# Altium footprint library PcbLib-PCB-Invernadero.PcbLib: 5 footprints
Each footprint in its own frame and in the unit in brackets; x right, y up, seen from the top. Pads: shape width x height; smd on the part's side, far side on the other; paste and mask are expansions set on the pad; w line width, h text height; cw(c..) or ccw(c..) is an arc to the next point about the centre after c.
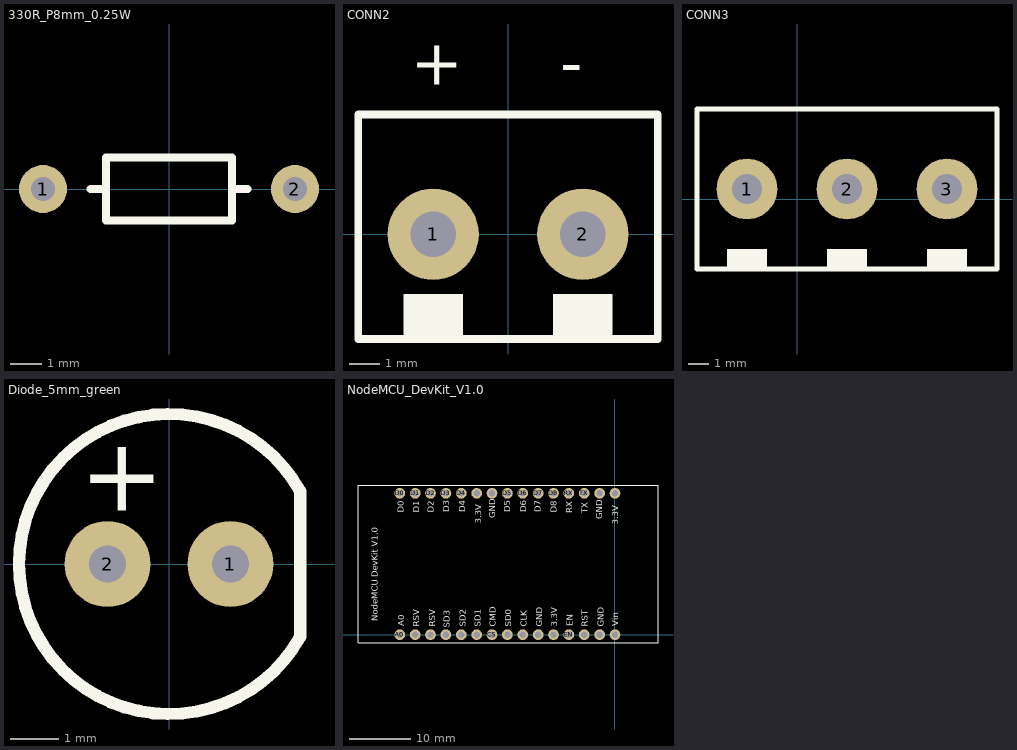
[diagram p0: the footprints below, top view; thin cyan lines are the x and y axes]

## 330R_P8mm_0.25W [mil]
pads (2):
  round 60 hole 30: 1(-157.48,0) 2(157.48,0)
Top Overlay:
  lines w10: -98.43,0 -78.74,0 ; 78.74,0 98.43,0 ; -78.74,-39.37 -78.74,39.37 78.74,39.37 78.74,-39.37 -78.74,-39.37
3D body "R330_L8mm_0.25watts.STEP": height 103.74, standoff -103.35, extent -167.32,-49.61 167.32,49.61

## CONN2 [mil]
pads (2):
  round 120 hole 60: 1(-98.43,0) 2(98.43,0)
Top Overlay:
  rectangle: -137.8,-137.8 -59.06,-78.74
  rectangle: 59.06,-137.8 137.8,-78.74
  lines w10: -196.85,-137.8 -196.85,157.48 196.85,157.48 196.85,-137.8 -196.85,-137.8
  text "+" at -127.8,196.85 h60
  text "-" at 69.06,196.55 h60
3D body "Connector.STEP": height 394.2, standoff -127.45, extent -196.85,-137.8 196.85,157.48

## CONN3 [mil]
pads (3):
  round 120 hole 60: 1(-98.43,19.68) 2(98.43,19.68) 3(295.28,19.68)
Top Overlay:
  rectangle: -137.8,-137.8 -59.06,-98.43
  rectangle: 59.06,-137.8 137.8,-98.43
  rectangle: 255.91,-137.8 334.65,-98.43
  lines w10: -196.85,-137.8 393.7,-137.8 393.7,177.17 -196.85,177.17 -196.85,-137.8
3D body "bornera de 3 terminales v2.0.STEP": height 394.2, standoff -156.98, extent -196.85,-137.8 393.7,177.16

## Diode_5mm_green [mil]
pads (2):
  round 70 hole 30: 1(50,0) 2(-50,0)
Top Overlay:
  lines w10: 106.69,-59.27 cw(c0,0) 106.69,59.27 106.69,-59.27
  text "+" at -72.68,43.31 h60
3D body "LED_GREEN_5MM.STEP": height 354.83, standoff -196.35, extent -118.11,-118.11 98.42,118.11

## NodeMCU_DevKit_V1.0 [mm]
pads (30):
  round 1.75 hole 1.016: 3.3V(-22.5,23) 3.3V(-10,0) 3.3V(0,23) A0(-35,0) CS(-20,0) D0(-35,23) D1(-32.5,23) D2(-30,23) D3(-27.5,23) D4(-25,23) D5(-17.5,23) D6(-15,23) D7(-12.5,23) D8(-10,23) EN(-7.5,0) GND(-20,23) GND(-12.5,0) GND(-2.5,0) GND(-2.5,23) MISO(-17.5,0) MOSI(-22.5,0) RST(-5,0) RSV(-32.5,0) RSV(-30,0) RX(-7.5,23) SCLK(-15,0) SD2(-25,0) SD3(-27.5,0) TX(-5,23) Vin(0,0)
Top Overlay:
  lines w0.2: -41.8,-1.3 -41.8,24.3 7,24.3 7,-1.3 -41.8,-1.3
  text "Vin" at 0.546,1.354 h1
  text "GND" at -1.854,1.254 h1
  text "RST" at -4.454,1.254 h1
  text "EN" at -6.854,1.354 h1
  text "3.3V" at -9.354,1.254 h1
  text "GND" at -11.854,1.254 h1
  text "CLK" at -14.354,1.254 h1
  text "SD0" at -16.854,1.254 h1
  text "CMD" at -19.354,1.254 h1
  text "SD1" at -21.854,1.254 h1
  text "SD2" at -24.254,1.254 h1
  text "SD3" at -26.854,1.154 h1
  text "RSV" at -29.254,1.254 h1
  text "RSV" at -31.854,1.254 h1
  text "A0" at -34.254,1.354 h1
  text "3.3V" at 0.546,17.854 h1
  text "TX" at -4.454,19.754 h1
  text "GND" at -2.054,18.754 h1
  text "RX" at -6.954,19.754 h1
  text "D8" at -9.454,19.854 h1
  text "D7" at -12.054,19.954 h1
  text "D6" at -14.454,19.954 h1
  text "D5" at -17.054,19.954 h1
  text "GND" at -19.454,18.954 h1
  text "3.3V" at -21.754,18.054 h1
  text "D4" at -24.354,19.954 h1
  text "D3" at -26.954,19.954 h1
  text "D2" at -29.454,19.854 h1
  text "D1" at -31.854,19.854 h1
  text "D0" at -34.354,19.854 h1
  text "NodeMCU DevKit V1.0" at -38.554,2.154 h1
3D body "NodeMCU HiLetgo ESP8266.STEP": height 9.83, standoff -2.87, extent -41.8,-1.2 6.811,24.2